# EAGLE library part HCPL-316J-500E (library HCPL-316J-500E)
2.5A Gate Driver Optical Coupling 5000Vrms 1 Channel 16-SO Source: Datasheet <https://docs.broadcom.com/doc/AV02-0717EN>
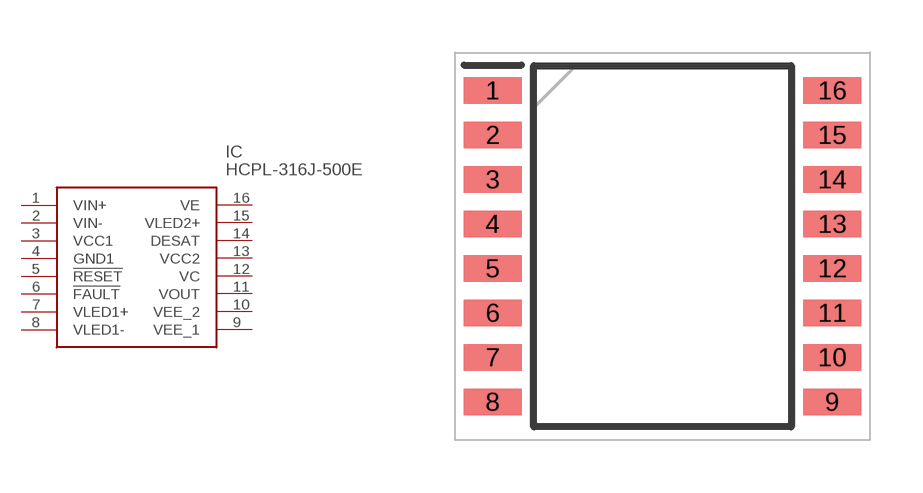
[diagram p0: symbol with the pads of SOIC127P1036X391-16N; footprint SOIC127P1036X391-16N]

Designator prefix IC

## HCPL-316J-500E (Description: 2.5A Gate Driver Optical Coupling 5000Vrms 1 Channel 16-SO; Height: 3.911mm; Manufacturer_Name: Avago Technologies; Manufacturer_Part_Number: HCPL-316J-500E; Mouser_Part_Number: 630-HCPL-316J-500E; Mouser_Price-Stock: https://www.mouser.co.uk/ProductDetail/Broadcom-Avago/HCPL-316J-500E?qs=s%252BgfxR24RQ5bfr5kc6yRkw%3D%3D)  [SOIC127P1036X391-16N]
1  VIN+
2  VIN-
3  VCC1
4  GND1
5  !RESET
6  !FAULT
7  VLED1+
8  VLED1-
9  VEE_1
10  VEE_2
11  VOUT
12  VC
13  VCC2
14  DESAT
15  VLED2+
16  VE

## Footprint SOIC127P1036X391-16N (pad centres in mm)
16-Lead Surface Mount_2021
smd 1.65 x 0.75: 1 -4.85,4.445; 2 -4.85,3.175; 3 -4.85,1.905; 4 -4.85,0.635; 5 -4.85,-0.635; 6 -4.85,-1.905; 7 -4.85,-3.175; 8 -4.85,-4.445; 9 4.85,-4.445; 10 4.85,-3.175; 11 4.85,-1.905; 12 4.85,-0.635; 13 4.85,0.635; 14 4.85,1.905; 15 4.85,3.175; 16 4.85,4.445